# EAGLE library part 61300821121 (library Board_to_Board_Connectors_rev15d)
Wr-PHD 2.54mm Dual Pin Header, 8 Pins =>Code : Con_BTB_PHD_2.54_2_61300821121 <http://katalog.we-online.de/media/images/eican/Con_BTB_PHD_2.54_2_6130xx21121_pf2.jpg> Details see: http://katalog.we-online.de/en/em/613_0xx_211_21 Created 2014-05-29, Karrer Zheng 2014 (C) Würth Elektronik
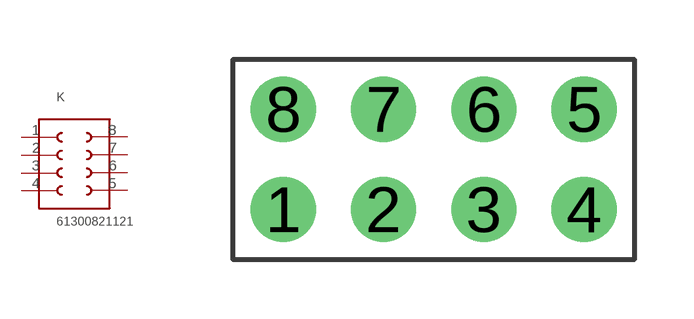
[diagram p19: symbol with the pads of 61300821121; footprint 61300821121]

Designator prefix K

## 61300821121  [61300821121]
1  1  pas
2  2  pas
3  3  pas
4  4  pas
5  5  pas
6  6  pas
7  7  pas
8  8  pas

## Footprint 61300821121 (pad centres in mm)
WR-PHD 2.54mm Dual Pin Header; 8 Pins
drill 1.1: 1 -3.81,-1.27; 2 -1.27,-1.27; 3 1.27,-1.27; 4 3.81,-1.27; 5 3.81,1.27; 6 1.27,1.27; 7 -1.27,1.27; 8 -3.81,1.27